# EAGLE library part AD7612 (library parts2011)
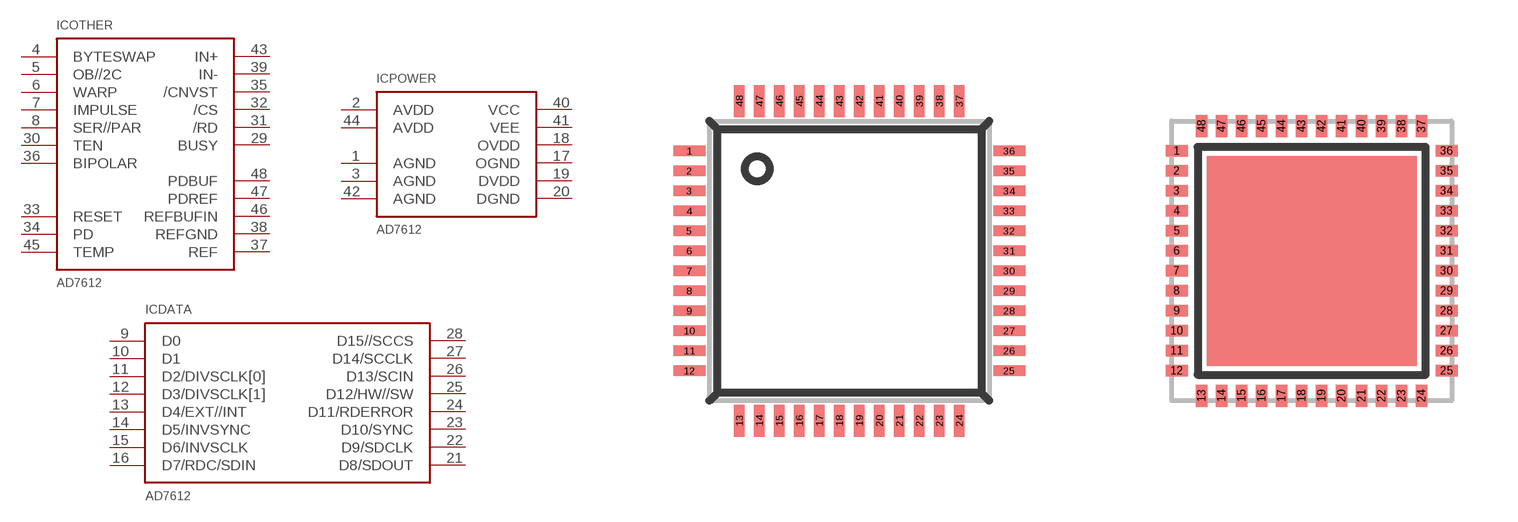
[diagram p1: symbol with the pads of LQFP-48; footprints LQFP-48, LFCSP_VQ-48]

Designator prefix IC; gates POWER=AD7612-PWR OTHER=AD7612-OTHER DATA=AD7612-DATA

## AD7612-TQFP-48  [LQFP-48]
1  POWER:AGND  pwr
2  POWER:AVDD  pwr
3  POWER:AGND  pwr
4  OTHER:BYTESWAP  in
5  OTHER:OB//2C  in
6  OTHER:WARP  in
7  OTHER:IMPULSE  in
8  OTHER:SER//PAR  in
9  DATA:D0  out
10  DATA:D1  out
11  DATA:D2/DIVSCLK[0]
12  DATA:D3/DIVSCLK[1]
13  DATA:D4/EXT//INT
14  DATA:D5/INVSYNC
15  DATA:D6/INVSCLK
16  DATA:D7/RDC/SDIN
17  POWER:OGND  pwr
18  POWER:OVDD  pwr
19  POWER:DVDD  pwr
20  POWER:DGND  pwr
21  DATA:D8/SDOUT  out
22  DATA:D9/SDCLK
23  DATA:D10/SYNC  out
24  DATA:D11/RDERROR  out
25  DATA:D12/HW//SW
26  DATA:D13/SCIN
27  DATA:D14/SCCLK
28  DATA:D15//SCCS
29  OTHER:BUSY  out
30  OTHER:TEN  in
31  OTHER:/RD  in
32  OTHER:/CS  in
33  OTHER:RESET  in
34  OTHER:PD  in
35  OTHER:/CNVST  in
36  OTHER:BIPOLAR  in
37  OTHER:REF
38  OTHER:REFGND  in
39  OTHER:IN-  in
40  POWER:VCC  pwr
41  POWER:VEE  pwr
42  POWER:AGND  pwr
43  OTHER:IN+  in
44  POWER:AVDD  pwr
45  OTHER:TEMP  out
46  OTHER:REFBUFIN  in
47  OTHER:PDREF  in
48  OTHER:PDBUF  in

## AD7612-LFCSP_VQ-48  [LFCSP_VQ-48]
Pads as for LQFP-48

## Footprint LQFP-48 (pad centres in mm)
smd 0.8 x 0.269: 1 -4,2.75; 2 -4,2.25; 3 -4,1.75; 4 -4,1.25; 5 -4,0.75; 6 -4,0.25; 7 -4,-0.25; 8 -4,-0.75; 9 -4,-1.25; 10 -4,-1.75; 11 -4,-2.25; 12 -4,-2.75; 25 4,-2.75; 26 4,-2.25; 27 4,-1.75; 28 4,-1.25; 29 4,-0.75; 30 4,-0.25; 31 4,0.25; 32 4,0.75; 33 4,1.25; 34 4,1.75; 35 4,2.25; 36 4,2.75
smd 0.269 x 0.8: 13 -2.75,-4; 14 -2.25,-4; 15 -1.75,-4; 16 -1.25,-4; 17 -0.75,-4; 18 -0.25,-4; 19 0.25,-4; 20 0.75,-4; 21 1.25,-4; 22 1.75,-4; 23 2.25,-4; 24 2.75,-4; 37 2.75,4; 38 2.25,4; 39 1.75,4; 40 1.25,4; 41 0.75,4; 42 0.25,4; 43 -0.25,4; 44 -0.75,4; 45 -1.25,4; 46 -1.75,4; 47 -2.25,4; 48 -2.75,4

## Footprint LFCSP_VQ-48 (pad centres in mm)
smd 0.55 x 0.297: 1 -3.375,2.75; 2 -3.375,2.25; 3 -3.375,1.75; 4 -3.375,1.25; 5 -3.375,0.75; 6 -3.375,0.25; 7 -3.375,-0.25; 8 -3.375,-0.75; 9 -3.375,-1.25; 10 -3.375,-1.75; 11 -3.375,-2.25; 12 -3.375,-2.75; 25 3.375,-2.75; 26 3.375,-2.25; 27 3.375,-1.75; 28 3.375,-1.25; 29 3.375,-0.75; 30 3.375,-0.25; 31 3.375,0.25; 32 3.375,0.75; 33 3.375,1.25; 34 3.375,1.75; 35 3.375,2.25; 36 3.375,2.75
smd 0.297 x 0.55: 13 -2.75,-3.375; 14 -2.25,-3.375; 15 -1.75,-3.375; 16 -1.25,-3.375; 17 -0.75,-3.375; 18 -0.25,-3.375; 19 0.25,-3.375; 20 0.75,-3.375; 21 1.25,-3.375; 22 1.75,-3.375; 23 2.25,-3.375; 24 2.75,-3.375; 37 2.75,3.375; 38 2.25,3.375; 39 1.75,3.375; 40 1.25,3.375; 41 0.75,3.375; 42 0.25,3.375; 43 -0.25,3.375; 44 -0.75,3.375; 45 -1.25,3.375; 46 -1.75,3.375; 47 -2.25,3.375; 48 -2.75,3.375